# Altium footprint library 5055780771.PcbLib: 1 footprints
Each footprint in its own frame and in the unit in brackets; x right, y up, seen from the top. Pads: shape width x height; smd on the part's side, far side on the other; paste and mask are expansions set on the pad; w line width, h text height; cw(c..) or ccw(c..) is an arc to the next point about the centre after c.
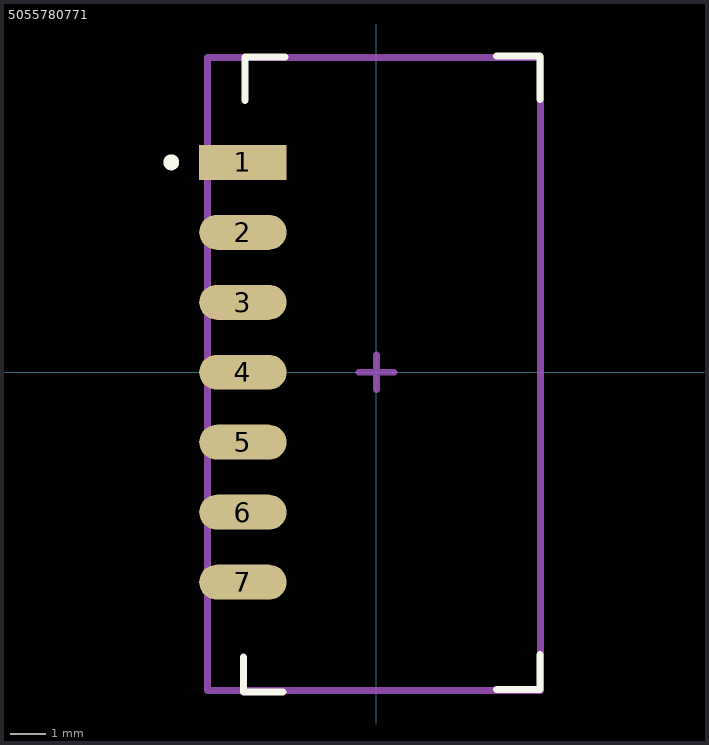
[diagram p0: the footprint, top view; thin cyan lines are the x and y axes]

## 5055780771 [mm]
pads (7):
  rect 2.5x1 smd mask+0.051: 1(-3.81,6)
  oval 2.5x1 smd mask+0.051: 2(-3.81,4) 3(-3.81,2) 4(-3.81,0) 5(-3.81,-2) 6(-3.81,-4) 7(-3.81,-6)
Top Overlay:
  circle w0.254: c-5.86,6 r0.1
  lines w0.2: -3.79,-8.144 -3.79,-9.144 -2.667,-9.144 ; -3.746,7.767 -3.746,9.017 -2.603,9.017 ; 3.432,-9.067 4.682,-9.067 4.682,-8.067 ; 3.432,9.044 4.682,9.044 4.682,7.794
Mechanical 13:
  lines w0.2: -4.826,-9.1 -4.826,9 -3.373,9 0.503,9 4.69,9 4.69,-9.1 -4.826,-9.1
Mechanical 15:
  lines w0.2: -0.492,0 0.508,0 ; 0.008,-0.5 0.008,0.5
3D body "5055780771.stp": height 5.91, standoff 0.01, extent -4.76,-9 4.69,9